# EAGLE library part ADS7946 (library ICs)
Analogue to Digital Converter, SAR, 14 bit, 2 MSPS, Single, 2.7 V, 5.25 V, WQFN
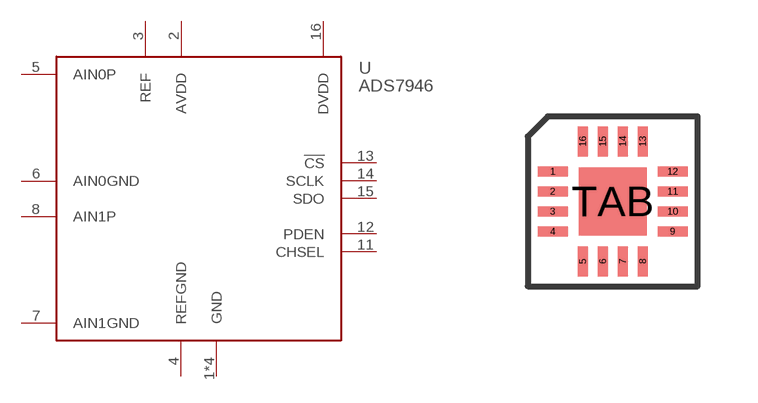
[diagram p143: symbol with the pads of QFN16; footprint QFN16]

Designator prefix U

## ADS7946RTET (FARNELL: 2064216; PRICE_PER: 7.98; VALUE: ADS7946)  [QFN16]
1  GND
2  AVDD
3  REF
4  REFGND
5  AIN0P
6  AIN0GND
7  AIN1GND
8  AIN1P
9  GND
10  GND
11  CHSEL
12  PDEN
13  !CS
14  SCLK
15  SDO
16  DVDD
TAB  GND

## Footprint QFN16 (pad centres in mm)
smd 0.75 x 0.25: 1 -1.5,0.75; 2 -1.5,0.25; 3 -1.5,-0.25; 4 -1.5,-0.75; 9 1.5,-0.75; 10 1.5,-0.25; 11 1.5,0.25; 12 1.5,0.75
smd 0.25 x 0.75: 5 -0.75,-1.5; 6 -0.25,-1.5; 7 0.25,-1.5; 8 0.75,-1.5; 13 0.75,1.5; 14 0.25,1.5; 15 -0.25,1.5; 16 -0.75,1.5
smd 1.7 x 1.7: TAB 0,0